# Altium schematic symbol library Radios_Comunitarias.SchLib: 36 symbols
Pins are listed as number, name and electrical type; pins without a type are passive.

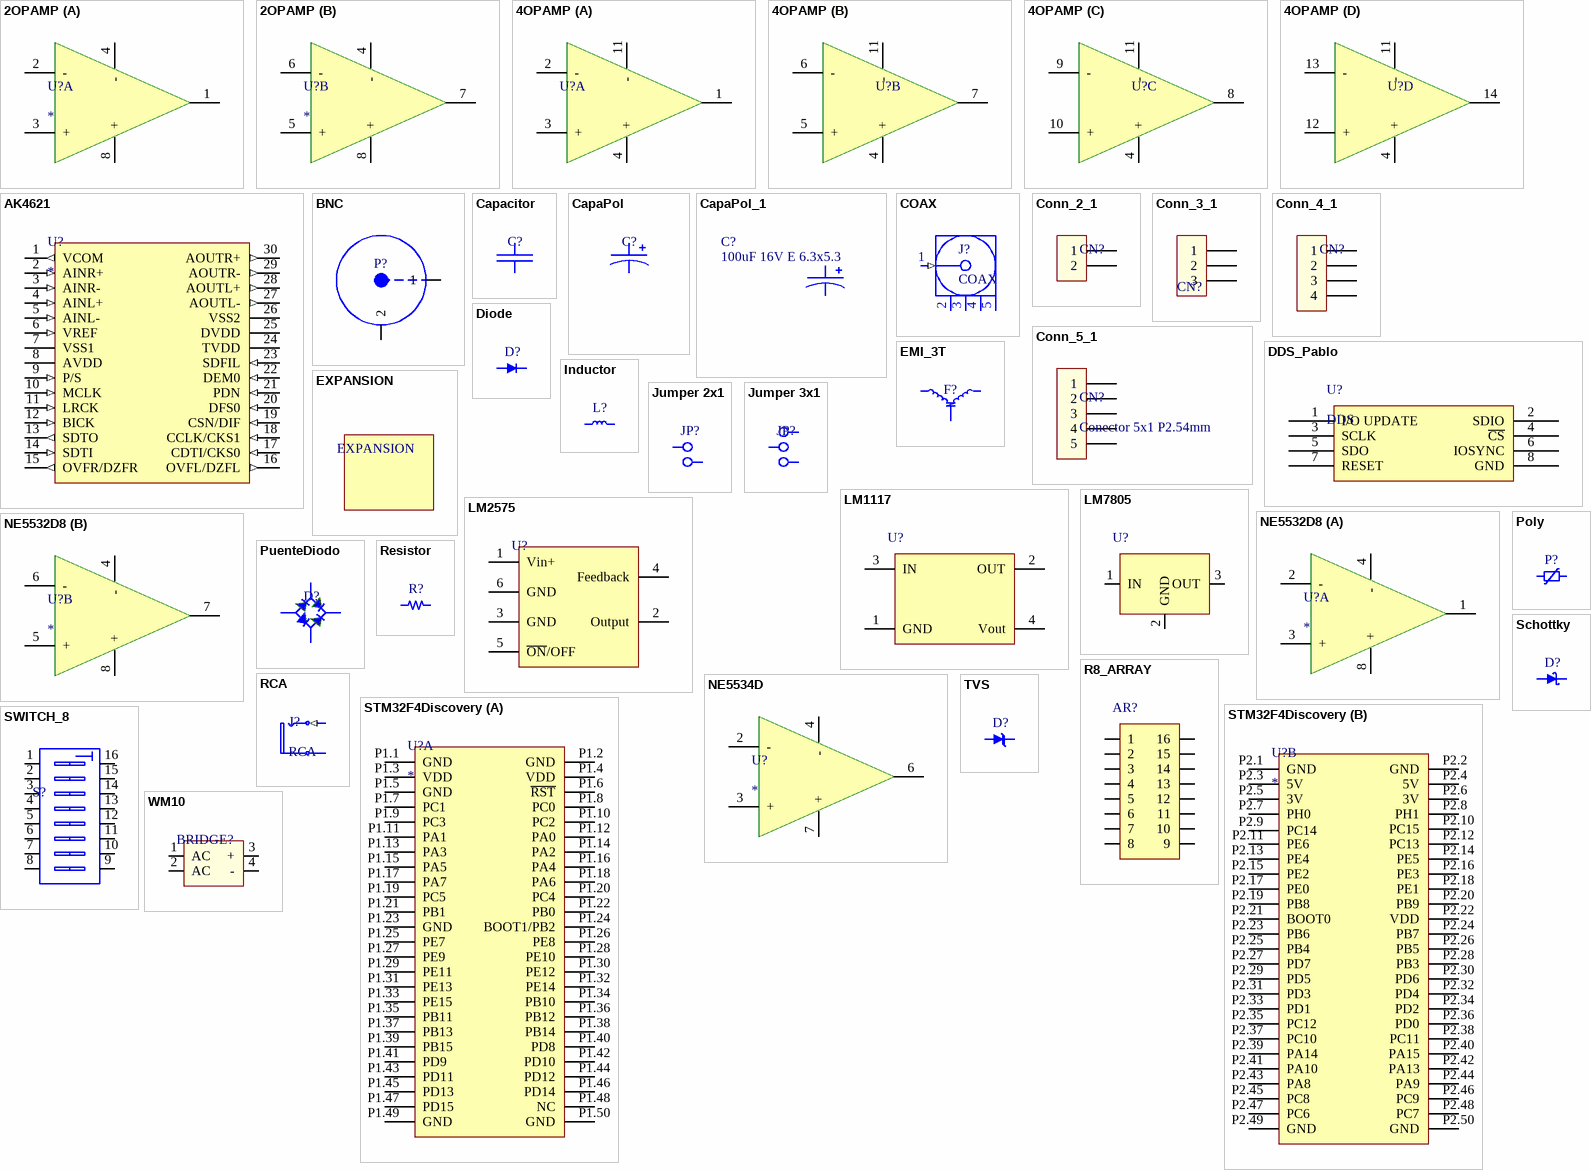
[diagram p0: symbols 2OPAMP to WM10]

## 2OPAMP
designator U?
Integrado con 2 operacionales
part A pins: 1 OUT, 2 -, 3 +, 4 - (power), 8 + (power)
part B pins: 4 - (power), 5 +, 6 -, 7 OUT, 8 + (power)

## 4OPAMP
designator U?
Integrado con 4 operacionales
part A pins: 1 OUT, 2 -, 3 +, 4 + (power), 11 -
part B pins: 4 + (power), 5 +, 6 -, 7 OUT, 11 -
part C pins: 4 + (power), 8 OUT, 9 -, 10 +, 11 -
part D pins: 4 + (power), 11 -, 12 +, 13 -, 14 OUT

## AK4621
designator U?
CODEC 24 bits 192kHz
footprint AK4621 (24bits 192kHz Stereo Audio CODEC SMD (VSOP-30))
pins: 1 VCOM (out), 2 AINR+ (in), 3 AINR- (in), 4 AINL+ (in), 5 AINL- (in), 6 VREF (in), 7 VSS1 (power), 8 AVDD (power), 9 P/S (in), 10 MCLK (in), 11 LRCK (in), 12 BICK (in), 13 SDTO (out), 14 SDTI (in), 15 OVFR/DZFR (out), 16 OVFL/DZFL (out), 17 CDTI/CKS0 (in), 18 CCLK/CKS1 (in), 19 CSN/DIF (in), 20 DFS0 (in), 21 PDN (in), 22 DEM0 (in), 23 SDFIL (in), 24 TVDD (power), 25 DVDD (power), 26 VSS2 (power), 27 AOUTL- (out), 28 AOUTL+ (out), 29 AOUTR- (out), 30 AOUTR+ (out)

## BNC
designator P?  (value not drawn)
BNC connector
pins: 1, 2

## Capacitor
designator C?  (value not drawn)
Capacitor de placas paralelas
pins: 1, 2

## CapaPol
designator C?  (value not drawn)
Capacitor polarizado
pins: 1, 2

## CapaPol_1
designator C?, comment 100uF 16V E 6.3x5.3
Capacitor polarizado; Cod. Proveedor: CA3629130; Encapsulado: SMD_6.3x5.3; Proveedor: Elemon
footprint CAPAEL_6.3x5.3_SMD (Capacitor electrolítico SMD de 6.3x5.3)
pins: 1, 2

## COAX
designator J?
Coaxial vertical MCX
pins: 1, 2, 3, 4, 5

## Conn_2_1
designator CN?  (value not drawn)
Conector de 2 pines en hilera
pins: 1, 2

## Conn_3_1
designator CN?  (value not drawn)
Conector de 3 pines en hilera
pins: 1, 2, 3

## Conn_4_1
designator CN?  (value not drawn)
Conector de 4 pines en hilera
pins: 1, 2, 3, 4

## Conn_5_1
designator CN?, comment Conector 5x1 P2.54mm
Conector de 5 pines en hilera
footprint Conn_5_1 (Conector de 5x1)
pins: 1, 2, 3, 4, 5

## DDS_Pablo
designator U?, comment DDS
footprint Conn_2x4 (Conector de 2x4)
pins: 1 I/O UPDATE, 2 SDIO, 3 SCLK, 4 ~{CS}, 5 SDO, 6 IOSYNC, 7 RESET, 8 GND

## Diode
designator D?  (value not drawn)
Diodo
pins: 1 |, 2

## EMI_3T
designator F?  (value not drawn)
Filtro EMI 3 terminales
pins: 1, 2, 3

## EXPANSION
designator ?
footprint EXPANSION

## Inductor
designator L?  (value not drawn)
Inductor
pins: 1, 2

## Jumper 2x1
designator JP?  (value not drawn)
footprint Conn_2_1 (Conector de 2x1)
pins: 1, 2

## Jumper 3x1
designator JP?  (value not drawn)
footprint Conn_3_1 (Conector de 3x1)
pins: 1, 2, 3

## LM1117
designator U?  (value not drawn)
Regulador Switching
pins: 1 GND, 2 OUT, 3 IN, 4 Vout

## LM2575
designator U?  (value not drawn)
Regulador Switching
pins: 1 Vin+, 2 Output, 3 GND, 4 Feedback, 5 ~{ON}/OFF, 6 GND

## LM7805
designator U?  (value not drawn)
Regulador lineal 5V
pins: 1 IN, 2 GND, 3 OUT

## NE5532D8
designator U?
part A pins: 1 OUT, 2 -, 3 +, 4 - (power), 8 + (power)
part B pins: 4 - (power), 5 +, 6 -, 7 OUT, 8 + (power)

## NE5534D
designator U?
pins: 2 -, 3 +, 4 -, 6 OUT, 7 + (power)

## Poly
designator P?  (value not drawn)
pins: 1, 2

## PuenteDiodo
designator D?  (value not drawn)
Puente de diodo
pins: 1, 2, 3, 4

## R8_ARRAY
designator AR?  (value not drawn)
Array de 8 resistencias
pins: 1, 2, 3, 4, 5, 6, 7, 8, 9, 10, 11, 12, 13, 14, 15, 16

## RCA
designator J?
RCA connector
pins: 1, 2

## Resistor
designator R?  (value not drawn)
Resistencia
pins: 1, 2

## Schottky
designator D?  (value not drawn)
Diodo Schottky
pins: 1, 2

## STM32F4Discovery
designator U?
footprint STM32F4DISCOVERY (STM32F4DISCOVERY (STM32F407VGT6))
part A pins: P1.1 GND, P1.2 GND, P1.3 VDD, P1.4 VDD, P1.5 GND, P1.6 ~{RST}, P1.7 PC1, P1.8 PC0, P1.9 PC3, P1.10 PC2, P1.11 PA1, P1.12 PA0, P1.13 PA3, P1.14 PA2, P1.15 PA5, P1.16 PA4, P1.17 PA7, P1.18 PA6, P1.19 PC5, P1.20 PC4, P1.21 PB1, P1.22 PB0, P1.23 GND, P1.24 BOOT1/PB2, P1.25 PE7, P1.26 PE8, P1.27 PE9, P1.28 PE10, P1.29 PE11, P1.30 PE12, P1.31 PE13, P1.32 PE14, P1.33 PE15, P1.34 PB10, P1.35 PB11, P1.36 PB12, P1.37 PB13, P1.38 PB14, P1.39 PB15, P1.40 PD8, P1.41 PD9, P1.42 PD10, P1.43 PD11, P1.44 PD12, P1.45 PD13, P1.46 PD14, P1.47 PD15, P1.48 NC, P1.49 GND, P1.50 GND
part B pins: P2.1 GND, P2.2 GND, P2.3 5V, P2.4 5V, P2.5 3V, P2.6 3V, P2.7 PH0, P2.8 PH1, P2.9 PC14, P2.10 PC15, P2.11 PE6, P2.12 PC13, P2.13 PE4, P2.14 PE5, P2.15 PE2, P2.16 PE3, P2.17 PE0, P2.18 PE1, P2.19 PB8, P2.20 PB9, P2.21 BOOT0, P2.22 VDD, P2.23 PB6, P2.24 PB7, P2.25 PB4, P2.26 PB5, P2.27 PD7, P2.28 PB3, P2.29 PD5, P2.30 PD6, P2.31 PD3, P2.32 PD4, P2.33 PD1, P2.34 PD2, P2.35 PC12, P2.36 PD0, P2.37 PC10, P2.38 PC11, P2.39 PA14, P2.40 PA15, P2.41 PA10, P2.42 PA13, P2.43 PA8, P2.44 PA9, P2.45 PC8, P2.46 PC9, P2.47 PC6, P2.48 PC7, P2.49 GND, P2.50 GND

## SWITCH_8
designator S?  (value not drawn)
Switch de 8
pins: 1, 2, 3, 4, 5, 6, 7, 8, 9, 10, 11, 12, 13, 14, 15, 16

## TVS
designator D?  (value not drawn)
Diodo TVS
pins: 1 |, 2

## WM10
designator BRIDGE?  (value not drawn)
Puente de diodos
pins: 1 AC, 2 AC, 3 +, 4 -

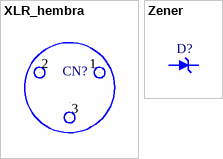
[diagram p1: symbols XLR_hembra to Zener]

## XLR_hembra
designator CN?  (value not drawn)
XLR connector (canon) hembra
footprint XLR_Ext (Cables para el XLR que va en el chasis)
pins: 1 Chasis, 2 Hot, 3 Cold

## Zener
designator D?  (value not drawn)
Diodo zener
pins: 1 |, 2